# EAGLE library part MOD-573-8TO48 (library vinoth-autodeskEagle)
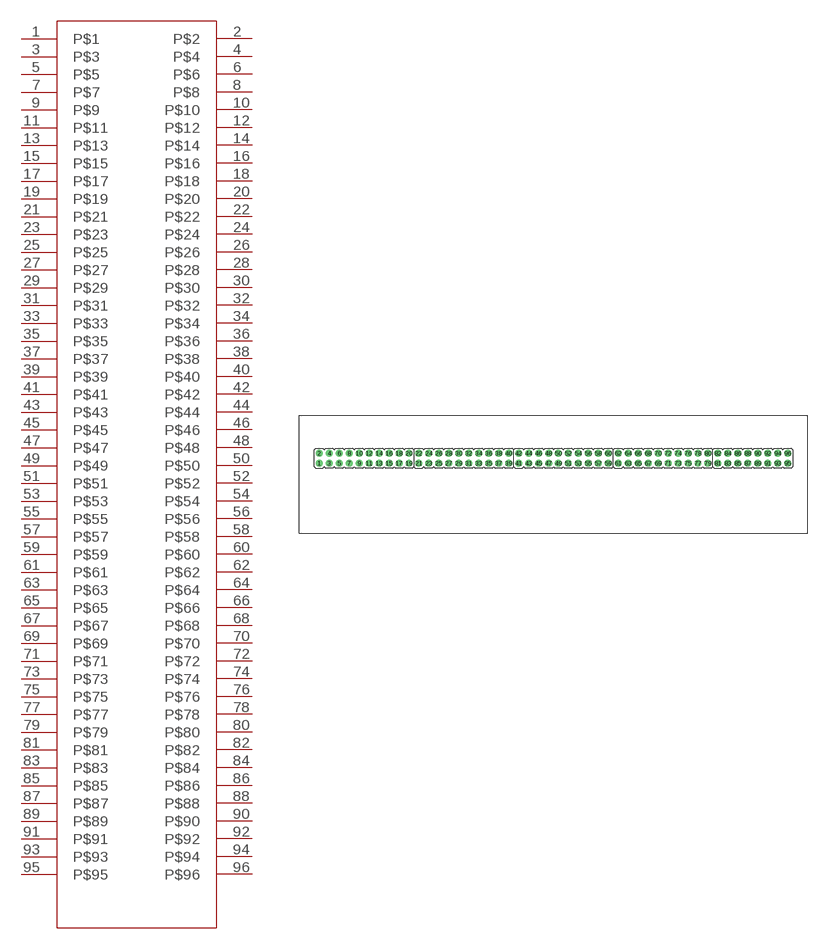
[diagram p9: symbol with the pads of MOD-573-8TO48; footprint MOD-573-8TO48]

Designator prefix -

## MOD-573-8TO48  [MOD-573-8TO48]
1  P$1
2  P$2
3  P$3
4  P$4
5  P$5
6  P$6
7  P$7
8  P$8
9  P$9
10  P$10
11  P$11
12  P$12
13  P$13
14  P$14
15  P$15
16  P$16
17  P$17
18  P$18
19  P$19
20  P$20
21  P$21
22  P$22
23  P$23
24  P$24
25  P$25
26  P$26
27  P$27
28  P$28
29  P$29
30  P$30
31  P$31
32  P$32
33  P$33
34  P$34
35  P$35
36  P$36
37  P$37
38  P$38
39  P$39
40  P$40
41  P$41
42  P$42
43  P$43
44  P$44
45  P$45
46  P$46
47  P$47
48  P$48
49  P$49
50  P$50
51  P$51
52  P$52
53  P$53
54  P$54
55  P$55
56  P$56
57  P$57
58  P$58
59  P$59
60  P$60
61  P$61
62  P$62
63  P$63
64  P$64
65  P$65
66  P$66
67  P$67
68  P$68
69  P$69
70  P$70
71  P$71
72  P$72
73  P$73
74  P$74
75  P$75
76  P$76
77  P$77
78  P$78
79  P$79
80  P$80
81  P$81
82  P$82
83  P$83
84  P$84
85  P$85
86  P$86
87  P$87
88  P$88
89  P$89
90  P$90
91  P$91
92  P$92
93  P$93
94  P$94
95  P$95
96  P$96

## Footprint MOD-573-8TO48 (pad centres in mm)
drill 0.914 pad 1.778: 1 5.08,17.78; 2 5.08,20.32; 3 7.62,17.78; 4 7.62,20.32; 5 10.16,17.78; 6 10.16,20.32; 7 12.7,17.78; 8 12.7,20.32; 9 15.24,17.78; 10 15.24,20.32; 11 17.78,17.78; 12 17.78,20.32; 13 20.32,17.78; 14 20.32,20.32; 15 22.86,17.78; 16 22.86,20.32; 17 25.4,17.78; 18 25.4,20.32; 19 27.94,17.78; 20 27.94,20.32; 21 30.48,17.78; 22 30.48,20.32; 23 33.02,17.78; 24 33.02,20.32; 25 35.56,17.78; 26 35.56,20.32; 27 38.1,17.78; 28 38.1,20.32; 29 40.64,17.78; 30 40.64,20.32; 31 43.18,17.78; 32 43.18,20.32; 33 45.72,17.78; 34 45.72,20.32; 35 48.26,17.78; 36 48.26,20.32; 37 50.8,17.78; 38 50.8,20.32; 39 53.34,17.78; 40 53.34,20.32; 41 55.88,17.78; 42 55.88,20.32; 43 58.42,17.78; 44 58.42,20.32; 45 60.96,17.78; 46 60.96,20.32; 47 63.5,17.78; 48 63.5,20.32; 49 66.04,17.78; 50 66.04,20.32; 51 68.58,17.78; 52 68.58,20.32; 53 71.12,17.78; 54 71.12,20.32; 55 73.66,17.78; 56 73.66,20.32; 57 76.2,17.78; 58 76.2,20.32; 59 78.74,17.78; 60 78.74,20.32; 61 81.28,17.78; 62 81.28,20.32; 63 83.82,17.78; 64 83.82,20.32; 65 86.36,17.78; 66 86.36,20.32; 67 88.9,17.78; 68 88.9,20.32; 69 91.44,17.78; 70 91.44,20.32; 71 93.98,17.78; 72 93.98,20.32; 73 96.52,17.78; 74 96.52,20.32; 75 99.06,17.78; 76 99.06,20.32; 77 101.6,17.78; 78 101.6,20.32; 79 104.14,17.78; 80 104.14,20.32; 81 106.68,17.78; 82 106.68,20.32; 83 109.22,17.78; 84 109.22,20.32; 85 111.76,17.78; 86 111.76,20.32; 87 114.3,17.78; 88 114.3,20.32; 89 116.84,17.78; 90 116.84,20.32; 91 119.38,17.78; 92 119.38,20.32; 93 121.92,17.78; 94 121.92,20.32; 95 124.46,17.78; 96 124.46,20.32